# EAGLE library part SI7020 (library James_custom)
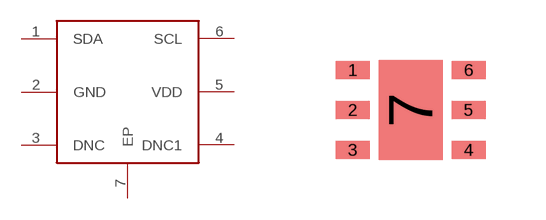
[diagram p24: symbol with the pads of DFN6; footprint DFN6]

Designator prefix -

## SI7020  [DFN6]
1  SDA
2  GND
3  DNC
4  DNC1
5  VDD
6  SCL
7  EP

## Footprint DFN6 (pad centres in mm)
smd 0.85 x 0.45: 1 -1.45,1; 2 -1.45,0; 3 -1.45,-1; 4 1.45,-1; 5 1.45,0; 6 1.45,1
smd 1.6 x 2.5: 7 0,0